# EAGLE library part 2672 (library micro-motorola)
MICROCONTROLLER/MEMORY DEVICE
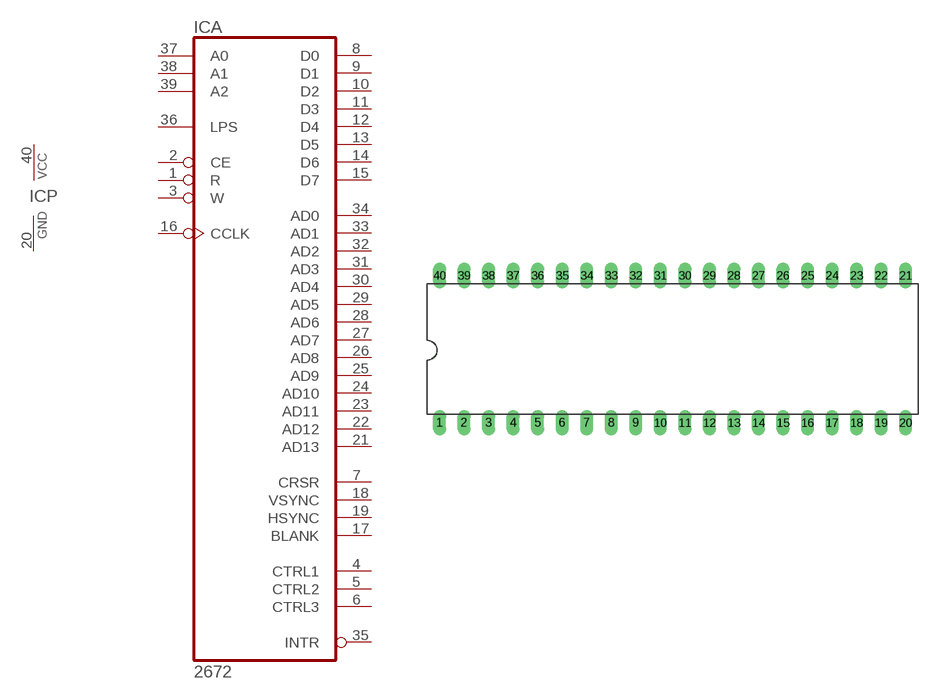
[diagram p38: symbol with the pads of DIL40; footprint DIL40]

Designator prefix IC; gates A=2672 P=PWRN

## 2672 (OC_FARNELL: unknown; OC_NEWARK: unknown)  [DIL40]
1  A:R  in
2  A:CE  in
3  A:W  in
4  A:CTRL1
5  A:CTRL2  out
6  A:CTRL3  out
7  A:CRSR  out
8  A:D0
9  A:D1
10  A:D2
11  A:D3
12  A:D4
13  A:D5
14  A:D6
15  A:D7
16  A:CCLK  in
17  A:BLANK  out
18  A:VSYNC  out
19  A:HSYNC  out
20  P:GND  pwr
21  A:AD13  out
22  A:AD12  out
23  A:AD11  out
24  A:AD10  out
25  A:AD9  out
26  A:AD8  out
27  A:AD7  out
28  A:AD6  out
29  A:AD5  out
30  A:AD4  out
31  A:AD3  out
32  A:AD2  out
33  A:AD1  out
34  A:AD0  out
35  A:INTR  out
36  A:LPS  in
37  A:A0  in
38  A:A1  in
39  A:A2  in
40  P:VCC  pwr

## Footprint DIL40 (pad centres in mm)
Dual In Line Package
drill 0.813 long: 1 -24.13,-7.62; 2 -21.59,-7.62; 3 -19.05,-7.62; 4 -16.51,-7.62; 5 -13.97,-7.62; 6 -11.43,-7.62; 7 -8.89,-7.62; 8 -6.35,-7.62; 9 -3.81,-7.62; 10 -1.27,-7.62; 11 1.27,-7.62; 12 3.81,-7.62; 13 6.35,-7.62; 14 8.89,-7.62; 15 11.43,-7.62; 16 13.97,-7.62; 17 16.51,-7.62; 18 19.05,-7.62; 19 21.59,-7.62; 20 24.13,-7.62; 21 24.13,7.62; 22 21.59,7.62; 23 19.05,7.62; 24 16.51,7.62; 25 13.97,7.62; 26 11.43,7.62; 27 8.89,7.62; 28 6.35,7.62; 29 3.81,7.62; 30 1.27,7.62; 31 -1.27,7.62; 32 -3.81,7.62; 33 -6.35,7.62; 34 -8.89,7.62; 35 -11.43,7.62; 36 -13.97,7.62; 37 -16.51,7.62; 38 -19.05,7.62; 39 -21.59,7.62; 40 -24.13,7.62